# EAGLE library part A3909 (library a3909)
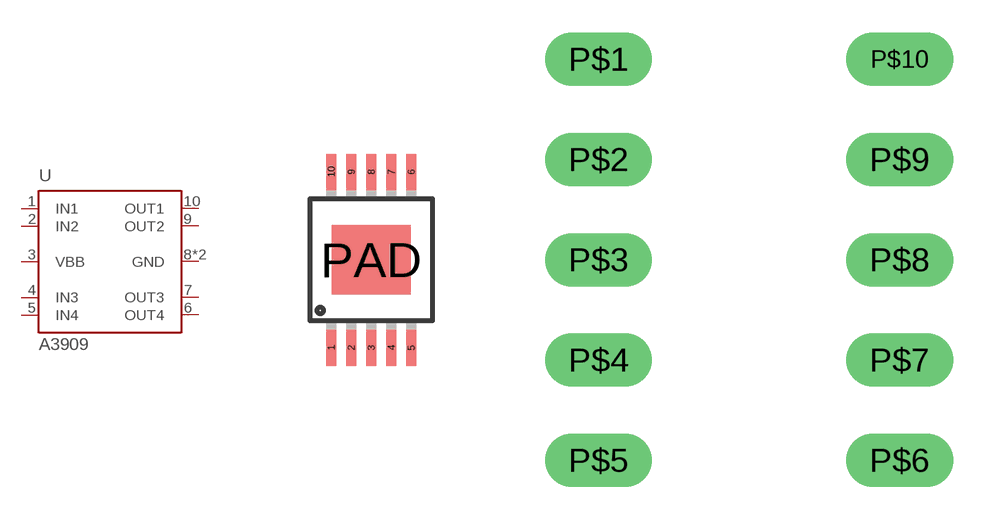
[diagram p0: symbol with the pads of MSOP10; footprints MSOP10, DIP10]

Designator prefix -

## A3909MSOP10  [MSOP10]
1  IN1  in
2  IN2  in
3  VBB  pwr
4  IN3  in
5  IN4  in
6  OUT4  out
7  OUT3  out
8  GND  pwr
9  OUT2  out
10  OUT1  out
PAD  GND  pwr

## A3909DIP10  [DIP10]
P$1  IN1  in
P$2  IN2  in
P$3  VBB  pwr
P$4  IN3  in
P$5  IN4  in
P$6  OUT4  out
P$7  OUT3  out
P$8  GND  pwr
P$9  OUT2  out
P$10  OUT1  out

## Footprint MSOP10 (pad centres in mm)
10-Lead Mini Small Outline Package [MSOP] (RM-10) Source: http://www.analog.com/UploadedFiles/Data_Sheets/35641221898805SSM2167_b.pdf COMPLIANT TO JEDEC STANDARDS MO-187BA
smd 0.25 x 0.9: 1 -1,-2.2; 2 -0.5,-2.2; 3 0,-2.2; 4 0.5,-2.2; 5 1,-2.2; 6 1,2.2; 7 0.5,2.2; 8 0,2.2; 9 -0.5,2.2; 10 -1,2.2
smd 1.98 x 1.73: PAD 0,0

## Footprint DIP10 (pad centres in mm)
drill 0.85 long: P$1 -3.81,5.08; P$2 -3.81,2.54; P$3 -3.81,0; P$4 -3.81,-2.54; P$5 -3.81,-5.08; P$6 3.81,-5.08; P$7 3.81,-2.54; P$8 3.81,0; P$9 3.81,2.54; P$10 3.81,5.08